# Altium footprint library power_pcb_lib.PcbLib: 4 footprints
Each footprint in its own frame and in the unit in brackets; x right, y up, seen from the top. Pads: shape width x height; smd on the part's side, far side on the other; paste and mask are expansions set on the pad; w line width, h text height; cw(c..) or ccw(c..) is an arc to the next point about the centre after c.
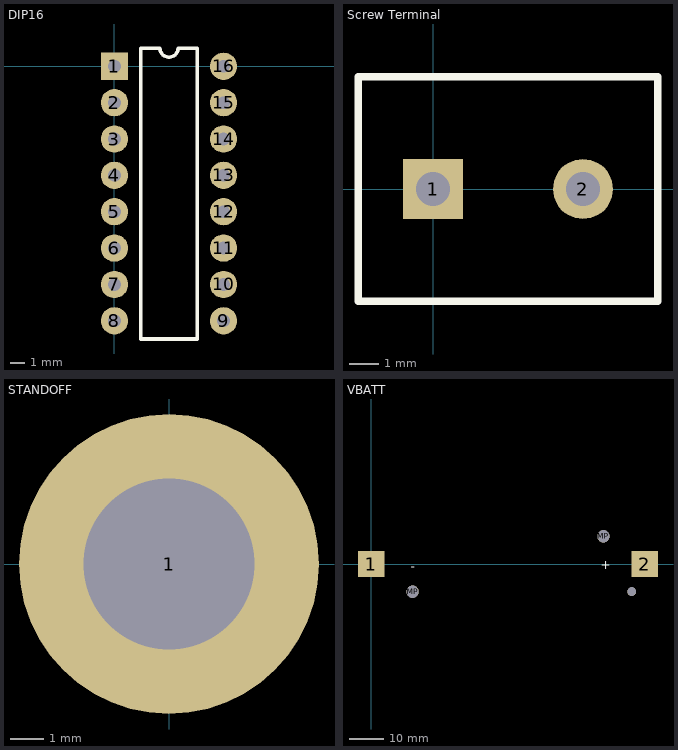
[diagram p0: the footprints below, top view; thin cyan lines are the x and y axes]

## DIP16 [mil]
pads (16):
  rect 75x75 hole 35: 1(0,0)
  round 75 hole 35: 2(0,-100) 3(0,-200) 4(0,-300) 5(0,-400) 6(0,-500) 7(0,-600) 8(0,-700) 9(300,-700) 10(300,-600) 11(300,-500) 12(300,-400) 13(300,-300) 14(300,-200) 15(300,-100) 16(300,0)
Top Overlay:
  lines w10: 72.5,-750 72.5,50 125,50 ccw(c150,50) 175,50 227.5,50 227.5,-750 72.5,-750

## Screw Terminal [mil]
pads (2):
  rect 80x80 hole 45: 1(0,0)
  round 80 hole 45: 2(200,0)
Top Overlay:
  lines w10: -100,-150 300,-150 300,150 -100,150 -100,-150

## STANDOFF [mil]
height 125
pads (1):
  round 350 hole 200: 1(0,0)

## VBATT [mil]
pads (5):
  rect 300x300 smd: 1(0,0) 2(3120,0)
  round 140 hole 140: MP(472.5,-315) MP(2647.5,315)
  round 100 hole 100: MP(2970,-315)
Top Overlay:
  text "+" at 2615,-60 h100
  text "-" at 450,-75 h100